# EAGLE library part CTS753DRT16 (library resistor-net)
Network Resistor CTS 753 Series Leadless Surface Mount Source: http://www.ctscorp.com/components/Datasheets/753.pdf Distributor: Digi Key
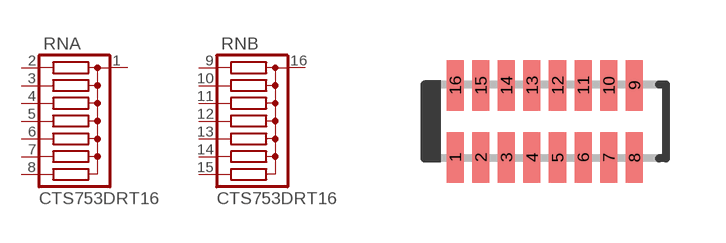
[diagram p12: symbol with the pads of CTS753DRT16; footprint CTS753DRT16]

Designator prefix RN; gates A=RN1X7 B=RN1X7

## CTS753DRT16  [CTS753DRT16]
1  A:C  pas
2  A:1  pas
3  A:2  pas
4  A:3  pas
5  A:4  pas
6  A:5  pas
7  A:6  pas
8  A:7  pas
9  B:1  pas
10  B:2  pas
11  B:3  pas
12  B:4  pas
13  B:5  pas
14  B:6  pas
15  B:7  pas
16  B:C  pas

## Footprint CTS753DRT16 (pad centres in mm)
Network Resistor Leadless Surface Mount Series 753 Source: http://www.ctscorp.com/components/Datasheets/753.pdf
smd 0.43 x 1.27: 1 -2.24,-0.9; 2 -1.6,-0.9; 3 -0.96,-0.9; 4 -0.32,-0.9; 5 0.32,-0.9; 6 0.96,-0.9; 7 1.6,-0.9; 8 2.24,-0.9; 9 2.24,0.9; 10 1.6,0.9; 11 0.96,0.9; 12 0.32,0.9; 13 -0.32,0.9; 14 -0.96,0.9; 15 -1.6,0.9; 16 -2.24,0.9